# Altium footprint library ES_Pcb_x.PcbLib: 354 footprints (part 6 of 23)
Each footprint in its own frame and in the unit in brackets; x right, y up, seen from the top. Pads: shape width x height; smd on the part's side, far side on the other; paste and mask are expansions set on the pad; w line width, h text height; cw(c..) or ccw(c..) is an arc to the next point about the centre after c.
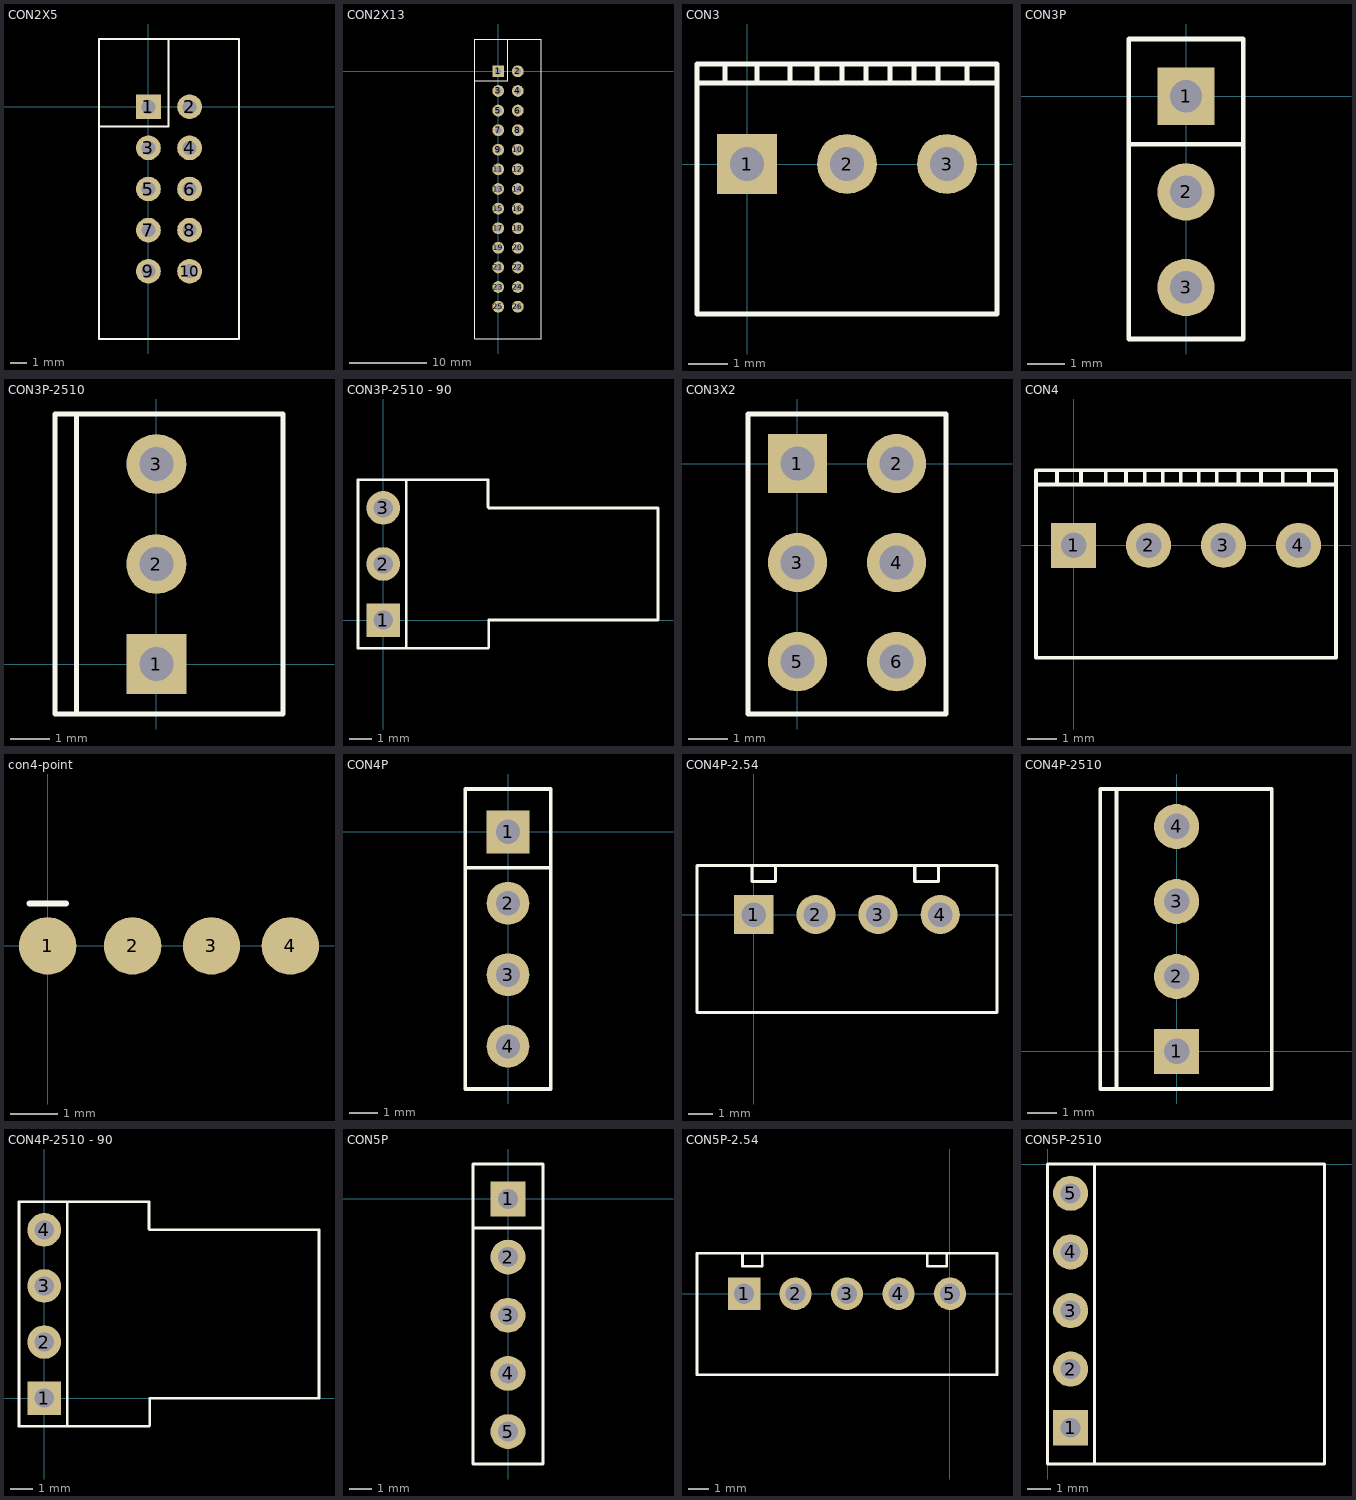
[diagram p5: the footprints below, top view; thin cyan lines are the x and y axes]

## CON2X5 [mil]
pads (10):
  rect 60x60 hole 34: 1(0,0)
  round 60 hole 34: 2(100,0) 3(0,-100) 4(100,-100) 5(0,-200) 6(100,-200) 7(0,-300) 8(100,-300) 9(0,-400) 10(100,-400)
Top Overlay:
  lines w5: -120,-48 49,-48 49,163 ; -120,-565 220,-565 220,165 -120,165 -120,-565

## CON2X13 [mil]
pads (26):
  rect 60x60 hole 34: 1(0,0)
  round 60 hole 34: 2(100,0) 3(0,-100) 4(100,-100) 5(0,-200) 6(100,-200) 7(0,-300) 8(100,-300) 9(0,-400) 10(100,-400) 11(0,-500) 12(100,-500) 13(0,-600) 14(100,-600) 15(0,-700) 16(100,-700) 17(0,-800) 18(100,-800) 19(0,-900) 20(100,-900) 21(0,-1000) 22(100,-1000) 23(0,-1100) 24(100,-1100) 25(0,-1200) 26(100,-1200)
Top Overlay:
  lines w5: -120,-48 49,-48 49,163 ; -120,-1365 -120,165 220,165 220,-1365 -120,-1365

## CON3 [mil]
pads (3):
  rect 60x60 hole 34: 1(0,0)
  round 60 hole 34: 2(100,0) 3(200,0)
Top Overlay:
  lines w5: -50,81 147,81 250,81 ; -22,83 -22,100 ; 10,82 10,100 ; 43,81 43,99 ; 70,81 70,100 ; 95,81 95,100 ; 119,84 119,100 ; 143,81 143,100 ; 167,82 167,100 ; 191,84 191,100 ; 220,84 220,100 ; -50,-150 150,-150 250,-150 250,100 150,100 -50,100 -50,-150

## CON3P [mil]
pads (3):
  rect 60x60 hole 34: 1(0,0)
  round 60 hole 34: 2(0,-100) 3(0,-200)
Top Overlay:
  lines w5: -60,-50.2 60,-50.2 ; -60,-253.94 60,-253.94 60,60 -60,60 -60,-253.94

## CON3P-2510 [mil]
pads (3):
  rect 60x60 hole 34: 1(0,0)
  round 60 hole 34: 2(0,100) 3(0,200)
Top Overlay:
  lines w5: -80,-50 -80,250 ; -101.57,-50 126.77,-50 126.77,250 -101.57,250 -101.57,-50

## CON3P-2510 - 90 [mil]
pads (3):
  rect 60x60 hole 34: 1(0,0)
  round 60 hole 34: 2(0,100) 3(0,200)
Top Overlay:
  lines w5: 186.57,-50 40.89,-50 ; 186.57,201.57 186.57,250 40.89,250 ; 188.15,-48.43 188.15,0 489.72,0 489.72,100 489.72,200 188.15,200 ; 40.89,-50 -45,-50 -45,150 -45,250 40.89,250 ; 40.89,-50 40.89,150 40.89,250

## CON3X2 [mil]
pads (6):
  rect 60x60 hole 34: 1(0,0)
  round 60 hole 34: 2(100,0) 3(0,-100) 4(100,-100) 5(0,-200) 6(100,-200)
Top Overlay:
  lines w5: -50,-252.95 150,-252.95 150,50 -50,50 -50,-252.95

## CON4 [mil]
pads (4):
  rect 60x60 hole 34: 1(0,0)
  round 60 hole 34: 2(100,0) 3(200,0) 4(300,0)
Top Overlay:
  lines w5: -50,81 147,81 250,81 ; -22,83 -22,100 ; 10,82 10,100 ; 43,81 43,99 ; 70,81 70,100 ; 95,81 95,100 ; 119,84 119,100 ; 143,81 143,100 ; 167,82 167,100 ; 191,84 191,100 ; 220,84 220,100 ; 279,81 279,100 ; 314,83 314,100 ; 347,81 250,81 ; 250,81 250,100 ; 250,100 150,100 -50,100 -50,-150 150,-150 250,-150 350,-150 350,100 250,100

## con4-point [mm]
pads (4):
  round 1.2 smd: 1(0,0) 2(1.778,0) 3(3.429,0) 4(5.08,0)
Top Overlay:
  lines w0.127: -0.381,0.889 0.381,0.889

## CON4P [mil]
pads (4):
  rect 60x60 hole 34: 1(0,0)
  round 60 hole 34: 2(0,-100) 3(0,-200) 4(0,-300)
Top Overlay:
  lines w5: -60,-50 60,-50 ; -60,-360 60,-360 60,60 -60,60 -60,-360

## CON4P-2.54 [mm]
pads (4):
  rect 1.6x1.6 hole 1: 1(0,0)
  round 1.6 hole 1: 2(2.54,0) 3(5.08,0) 4(7.62,0)
Top Overlay:
  lines w0.127: -2.321,1.981 -2.321,-4 9.929,-4 9.941,-3.988 9.941,1.981 ; -2.321,2 9.941,2 ; -0.076,1.981 -0.076,1.346 0.889,1.346 0.889,1.981 ; 6.579,1.93 6.579,1.346 7.544,1.346 7.544,1.93

## CON4P-2510 [mil]
pads (4):
  rect 60x60 hole 34: 1(0,0)
  round 60 hole 34: 2(0,100) 3(0,200) 4(0,300)
Top Overlay:
  lines w5: -80,-50 -80,350 ; -101.57,-50 126.77,-50 126.77,350 -101.57,350 -101.57,-50

## CON4P-2510 - 90 [mil]
pads (4):
  rect 60x60 hole 34: 1(0,0)
  round 60 hole 34: 2(0,100) 3(0,200) 4(0,300)
Top Overlay:
  lines w5: 186.57,-50 40.89,-50 ; 188.15,-48.43 188.15,0 489.72,0 489.72,300 188.15,300 186.57,301.57 186.57,350 40.89,350 ; 40.89,-50 -45,-50 -45,93.43 -45,350 40.89,350 ; 40.89,-50 40.89,350

## CON5P [mil]
pads (5):
  rect 60x60 hole 34: 1(0,0)
  round 60 hole 34: 2(0,-100) 3(0,-200) 4(0,-300) 5(0,-400)
Top Overlay:
  lines w5: -60,-50 60,-50 ; -60,-455.71 -60,60 60,60 60,-455.71 -60,-455.71

## CON5P-2.54 [mm]
pads (5):
  rect 1.6x1.6 hole 1: 1(-10.16,0)
  round 1.6 hole 1: 2(-7.62,0) 3(-5.08,0) 4(-2.54,0) 5(0,0)
Top Overlay:
  lines w0.127: -12.481,-4 2.321,-4 ; -12.481,-3.988 -12.481,1.981 ; -12.481,2 2.321,2 ; -10.236,1.981 -10.236,1.346 -9.271,1.346 -9.271,1.981 ; -1.118,1.981 -1.118,1.346 -0.152,1.346 -0.152,1.981 ; 2.321,-3.988 2.321,1.981

## CON5P-2510 [mil]
pads (5):
  rect 60x60 hole 34: 1(39.37,-450)
  round 60 hole 34: 2(39.37,-350) 3(39.37,-250) 4(39.37,-150) 5(39.37,-50)
Top Overlay:
  lines w5: 80,-510 80,0 ; 0,-511.81 472.44,-511.81 472.44,0 0,0 0,-511.81